# EAGLE library part TBD62083A (library tm-TOSHIBA)
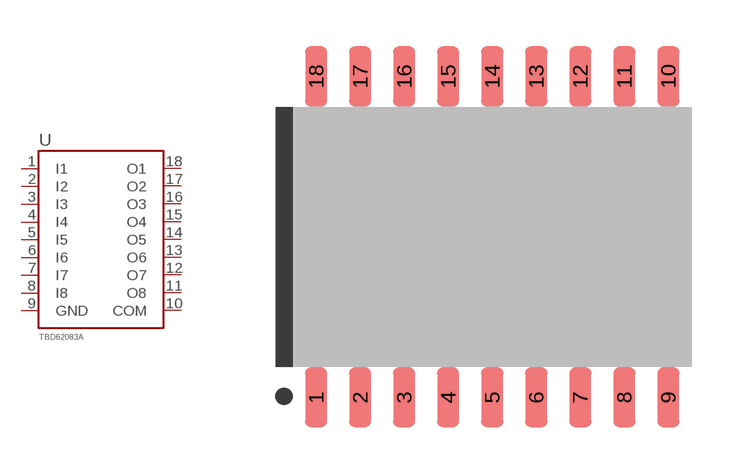
[diagram p0: symbol with the pads of P-SOP18-0812-1.27-001_LP; footprint P-SOP18-0812-1.27-001_LP]

Designator prefix U

## TBD62083AFG  [P-SOP18-0812-1.27-001_LP]
1  I1
2  I2
3  I3
4  I4
5  I5
6  I6
7  I7
8  I8
9  GND
10  COM
11  O8
12  O7
13  O6
14  O5
15  O4
16  O3
17  O2
18  O1

## Footprint P-SOP18-0812-1.27-001_LP (pad centres in mm)
smd 0.635 x 1.725: 1 -5.08,-4.638; 2 -3.81,-4.638; 3 -2.54,-4.638; 4 -1.27,-4.638; 5 0,-4.638; 6 1.27,-4.638; 7 2.54,-4.638; 8 3.81,-4.638; 9 5.08,-4.638; 10 5.08,4.638; 11 3.81,4.638; 12 2.54,4.638; 13 1.27,4.638; 14 0,4.638; 15 -1.27,4.638; 16 -2.54,4.638; 17 -3.81,4.638; 18 -5.08,4.638